# EAGLE library part PWR_REG_TPS54233DR (library !GPLIB_ACTIVE)
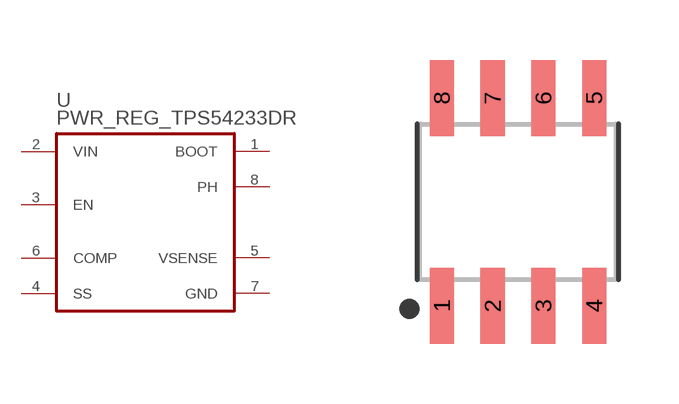
[diagram p31: symbol with the pads of SOIC-8P; footprint SOIC-8P]

Designator prefix U

## PWR_REG_TPS54233DR  [SOIC-8P]
1  BOOT  out
2  VIN  pwr
3  EN  in
4  SS  out
5  VSENSE  in
6  COMP  out
7  GND  pwr
8  PH  in

## Footprint SOIC-8P (pad centres in mm)
8-SOIC, 1.27 mm pitch, 6.00 mm span, 4.90 X 3.90 X 1.75 mm body 8-pin SOIC package with 1.27 mm pitch, 6.00 mm span with body size 4.90 X 3.90 X 1.75 mm
smd 0.602 x 1.904: 1 -1.905,-2.6; 2 -0.635,-2.6; 3 0.635,-2.6; 4 1.905,-2.6; 5 1.905,2.6; 6 0.635,2.6; 7 -0.635,2.6; 8 -1.905,2.6